# EAGLE library part AD633 (library 0SBLib)
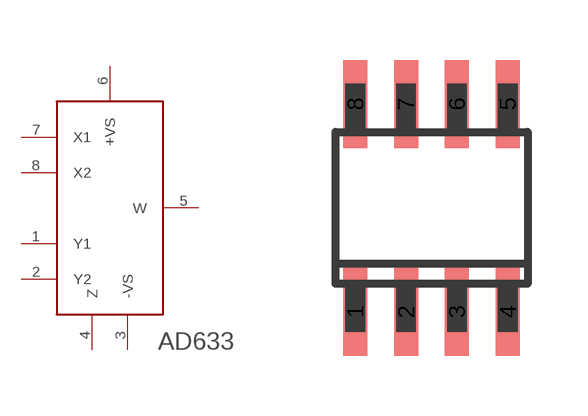
[diagram p14: symbol with the pads of SO-08; footprint SO-08]

Designator prefix U

## AD633  [SO-08]
1  Y1
2  Y2
3  -VS
4  Z
5  W
6  +VS
7  X1
8  X2

## Footprint SO-08 (pad centres in mm)
Small Outline Narrow Plastic Gull Wing 150-mil body, package type SN
smd 0.6 x 2.2: 1 -1.905,-2.6; 2 -0.635,-2.6; 3 0.635,-2.6; 4 1.905,-2.6; 5 1.905,2.6; 6 0.635,2.6; 7 -0.635,2.6; 8 -1.905,2.6